# Altium footprint library FootprintLib.PcbLib: 194 footprints (part 10 of 13)
Each footprint in its own frame and in the unit in brackets; x right, y up, seen from the top. Pads: shape width x height; smd on the part's side, far side on the other; paste and mask are expansions set on the pad; w line width, h text height; cw(c..) or ccw(c..) is an arc to the next point about the centre after c.
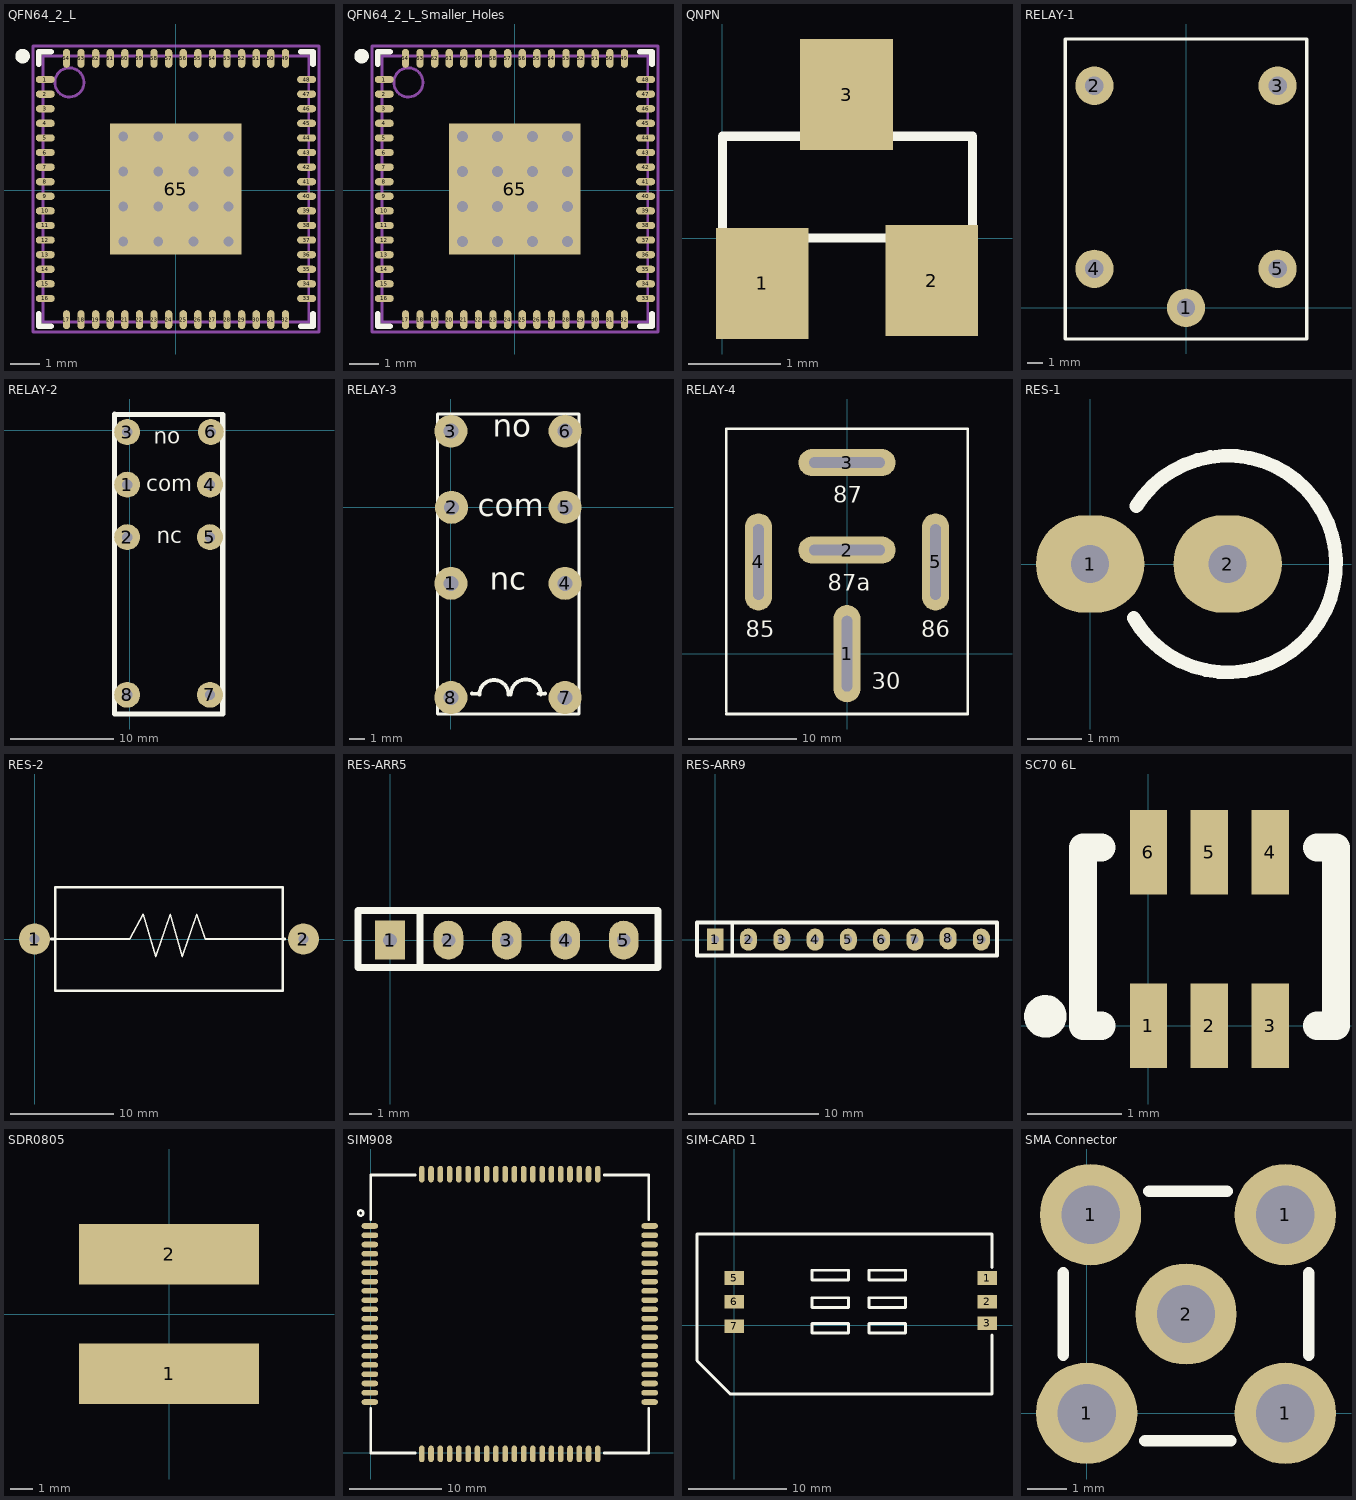
[diagram p9: the footprints below, top view; thin cyan lines are the x and y axes]

## QFN64_2_L [mm]
pads (65):
  oval 0.65x0.25 smd: 1(-4.475,3.801) 2(-4.475,3.301) 3(-4.475,2.801) 4(-4.475,2.301) 5(-4.475,1.801) 6(-4.475,1.301) 7(-4.475,0.801) 8(-4.475,0.301) 9(-4.475,-0.199) 10(-4.475,-0.699) 11(-4.475,-1.199) 12(-4.475,-1.699) 13(-4.475,-2.199) 14(-4.475,-2.699) 15(-4.475,-3.199) 16(-4.475,-3.699) 33(4.475,-3.699) 34(4.475,-3.199) 35(4.475,-2.699) 36(4.475,-2.199) 37(4.475,-1.699) 38(4.475,-1.199) 39(4.475,-0.699) 40(4.475,-0.199) 41(4.475,0.301) 42(4.475,0.801) 43(4.475,1.301) 44(4.475,1.801) 45(4.475,2.301) 46(4.475,2.801) 47(4.475,3.301) 48(4.475,3.801)
  oval 0.25x0.65 smd: 17(-3.75,-4.424) 18(-3.25,-4.424) 19(-2.75,-4.424) 20(-2.25,-4.424) 21(-1.75,-4.424) 22(-1.25,-4.424) 23(-0.75,-4.424) 24(-0.25,-4.424) 25(0.25,-4.424) 26(0.75,-4.424) 27(1.25,-4.424) 28(1.75,-4.424) 29(2.25,-4.424) 30(2.75,-4.424) 31(3.25,-4.424) 32(3.75,-4.424) 49(3.75,4.526) 50(3.25,4.526) 51(2.75,4.526) 52(2.25,4.526) 53(1.75,4.526) 54(1.25,4.526) 55(0.75,4.526) 56(0.25,4.526) 57(-0.25,4.526) 58(-0.75,4.526) 59(-1.25,4.526) 60(-1.75,4.526) 61(-2.25,4.526) 62(-2.75,4.526) 63(-3.25,4.526) 64(-3.75,4.526)
  rect 4.5x4.5 smd: 65(0,0.051)
via 1.8,-1.749 diameter 0.66 hole 0.33
via 0.6,-1.749 diameter 0.66 hole 0.33
via -0.6,-1.749 diameter 0.66 hole 0.33
via -1.8,-1.749 diameter 0.66 hole 0.33
via 1.8,-0.549 diameter 0.66 hole 0.33
via 0.6,-0.549 diameter 0.66 hole 0.33
via -0.6,-0.549 diameter 0.66 hole 0.33
via -1.8,-0.549 diameter 0.66 hole 0.33
via 1.8,0.651 diameter 0.66 hole 0.33
via 0.6,0.651 diameter 0.66 hole 0.33
via -0.6,0.651 diameter 0.66 hole 0.33
via -1.8,0.651 diameter 0.66 hole 0.33
via 1.8,1.851 diameter 0.66 hole 0.33
via 0.6,1.851 diameter 0.66 hole 0.33
via -0.6,1.851 diameter 0.66 hole 0.33
via -1.8,1.851 diameter 0.66 hole 0.33
Top Overlay:
  circle w0.25: c-5.25,4.601 r0.125
  lines w0.2: -4.7,-4.224 -4.7,-4.649 -4.275,-4.649 ; -4.7,4.326 -4.7,4.751 -4.275,4.751 ; 4.275,-4.649 4.7,-4.649 4.7,-4.224 ; 4.275,4.751 4.7,4.751 4.7,4.326
Mechanical 13:
  circle w0.1: c-3.65,3.701 r0.5
  lines w0.1: -4.55,-4.499 4.55,-4.499 4.55,4.601 -4.55,4.601 -4.55,-4.499
Mechanical 15:
  lines w0.1: -0.5,0.051 0.5,0.051 ; 0,-0.449 0,0.551 ; -4.9,-4.849 4.9,-4.849 4.9,4.951 -4.9,4.951 -4.9,-4.849
3D body: height 1, standoff 0, extent -4.549,-4.499 4.55,4.6

## QFN64_2_L_Smaller_Holes [mm]
pads (65):
  oval 0.65x0.25 smd: 1(-4.475,3.801) 2(-4.475,3.301) 3(-4.475,2.801) 4(-4.475,2.301) 5(-4.475,1.801) 6(-4.475,1.301) 7(-4.475,0.801) 8(-4.475,0.301) 9(-4.475,-0.199) 10(-4.475,-0.699) 11(-4.475,-1.199) 12(-4.475,-1.699) 13(-4.475,-2.199) 14(-4.475,-2.699) 15(-4.475,-3.199) 16(-4.475,-3.699) 33(4.475,-3.699) 34(4.475,-3.199) 35(4.475,-2.699) 36(4.475,-2.199) 37(4.475,-1.699) 38(4.475,-1.199) 39(4.475,-0.699) 40(4.475,-0.199) 41(4.475,0.301) 42(4.475,0.801) 43(4.475,1.301) 44(4.475,1.801) 45(4.475,2.301) 46(4.475,2.801) 47(4.475,3.301) 48(4.475,3.801)
  oval 0.25x0.65 smd: 17(-3.75,-4.424) 18(-3.25,-4.424) 19(-2.75,-4.424) 20(-2.25,-4.424) 21(-1.75,-4.424) 22(-1.25,-4.424) 23(-0.75,-4.424) 24(-0.25,-4.424) 25(0.25,-4.424) 26(0.75,-4.424) 27(1.25,-4.424) 28(1.75,-4.424) 29(2.25,-4.424) 30(2.75,-4.424) 31(3.25,-4.424) 32(3.75,-4.424) 49(3.75,4.526) 50(3.25,4.526) 51(2.75,4.526) 52(2.25,4.526) 53(1.75,4.526) 54(1.25,4.526) 55(0.75,4.526) 56(0.25,4.526) 57(-0.25,4.526) 58(-0.75,4.526) 59(-1.25,4.526) 60(-1.75,4.526) 61(-2.25,4.526) 62(-2.75,4.526) 63(-3.25,4.526) 64(-3.75,4.526)
  rect 4.5x4.5 smd: 65(0,0.051)
via -1.8,1.851 diameter 0.69 hole 0.381
via -0.6,1.851 diameter 0.69 hole 0.381
via 0.6,1.851 diameter 0.69 hole 0.381
via 1.8,1.851 diameter 0.69 hole 0.381
via -1.8,0.651 diameter 0.69 hole 0.381
via -0.6,0.651 diameter 0.69 hole 0.381
via 0.6,0.651 diameter 0.69 hole 0.381
via 1.8,0.651 diameter 0.69 hole 0.381
via -1.8,-0.549 diameter 0.69 hole 0.381
via -0.6,-0.549 diameter 0.69 hole 0.381
via 0.6,-0.549 diameter 0.69 hole 0.381
via 1.8,-0.549 diameter 0.69 hole 0.381
via -1.8,-1.749 diameter 0.69 hole 0.381
via -0.6,-1.749 diameter 0.69 hole 0.381
via 0.6,-1.749 diameter 0.69 hole 0.381
via 1.8,-1.749 diameter 0.69 hole 0.381
Top Overlay:
  circle w0.25: c-5.25,4.601 r0.125
  lines w0.2: -4.7,-4.224 -4.7,-4.649 -4.275,-4.649 ; -4.7,4.326 -4.7,4.751 -4.275,4.751 ; 4.275,-4.649 4.7,-4.649 4.7,-4.224 ; 4.275,4.751 4.7,4.751 4.7,4.326
Mechanical 13:
  circle w0.1: c-3.65,3.701 r0.5
  lines w0.1: -4.55,-4.499 -4.55,4.601 4.55,4.601 4.55,-4.499 -4.55,-4.499
Mechanical 15:
  lines w0.1: -0.5,0.051 0.5,0.051 ; 0,-0.449 0,0.551 ; -4.9,-4.849 -4.9,4.951 4.9,4.951 4.9,-4.849 -4.9,-4.849
3D body: height 1, standoff 0, extent -4.549,-4.499 4.55,4.6

## QNPN [mm]
pads (3):
  rect 1x1.2 smd: 1(0.43,-0.49) 2(2.26,-0.46) 3(1.34,1.55)
Top Overlay:
  lines w0.1: 0,0 2.7,0 2.7,1.1 0,1.1 0,0

## RELAY-1 [mm]
pads (5):
  round 2.5 hole 1.2: 1(0,0) 2(-5.969,14.478) 3(5.969,14.478) 4(-5.969,2.54) 5(5.969,2.54)
Top Overlay:
  lines w0.2: -7.874,-2.032 7.874,-2.032 7.874,17.526 -7.874,17.526 -7.874,-2.032

## RELAY-2 [mm] "Relay_5"
pads (8):
  round 2.5 hole 1: 1(-0.25,-5.25) 2(-0.25,-10.33) 3(-0.25,-0.17) 4(7.751,-5.25) 5(7.751,-10.33) 6(7.836,-0.165) 7(7.751,-25.57) 8(-0.25,-25.57)
Top Overlay:
  lines w0.5: -1.474,1.53 8.994,1.53 8.994,-27.426 -1.474,-27.426 -1.474,1.574
  text "com" at 1.6,-5.9 h1.5
  text "nc" at 2.6,-10.9 h1.5
  text "no" at 2.3,-1.3 h1.5

## RELAY-3 [mm]
pads (8):
  round 2.2 hole 1: 1(0,-5.08) 2(0.042,-0.005) 3(0,5.08) 4(7.62,-5.08) 5(7.62,0) 6(7.62,5.08) 7(7.62,-12.7) 8(0,-12.7)
Top Overlay:
  lines w0.2: -0.9,6.205 -0.9,-13.8 8.558,-13.8 ; -0.9,6.228 8.56,6.228 8.56,-13.8
  lines w0.254: 1.41,-12.434 1.846,-12.446 ; 1.9,-12.5 cw(c2.872,-12.5) 3.844,-12.5 ; 4,-12.5 cw(c5,-12.5) 6,-12.5 ; 5.842,-12.446 6.295,-12.433 ; 6.773,-0.005 8.043,-0.005
  text "no" at 2.8,4.7 h1.5
  text "nc" at 2.6,-5.5 h1.5
  text "com" at 1.8,-0.6 h1.5

## RELAY-4 [mm]
height 20
pads (5):
  oval 2.5x9 hole 1 slot 7 at 90 deg: 1(0,0) 4(-8.2,8.5) 5(8.2,8.5)
  oval 9x2.5 hole 1 slot 7 at 0 deg: 2(0,9.6) 3(0,17.7)
Top Overlay:
  lines w0.254: -11.176,-5.588 11.176,-5.588 11.176,20.828 ; -11.176,-5.372 -11.176,20.828 11.024,20.828
  text "87" at -1.27,13.97 h1.52
  text "87a" at -1.778,5.842 h1.52
  text "85" at -9.398,1.524 h1.52
  text "86" at 6.858,1.524 h1.52
  text "30" at 2.286,-3.302 h1.52

## RES-1 [mm]
pads (2):
  oval 2x1.8 hole 0.7: 1(0,0) 2(2.54,0)
Top Overlay:
  lines w0.254: 0.806,-0.997 ccw(c2.54,0) 0.849,1.069

## RES-2 [mm]
pads (2):
  round 3 hole 1: 1(0,0) 2(26,0)
Top Overlay:
  lines w0.15: 2,0 9.2,0 10.5,2.4 11.7,-1.7 13.1,2.4 14.3,-1.7 15.7,2.4 ; 24,0 16.5,0 15.7,2.4 ; 15.7,2.4 15.7,2.4
  lines w0.25: 1.6,0 2,0 ; 24,0 24.2,0 ; 2,-5 24,-5 24,5 2,5 2,-5

## RES-ARR5 [mm]
height 2
pads (5):
  rect 1.3x1.7 hole 0.6: 1(0,0)
  oval 1.3x1.7 hole 0.6: 2(2.55,0) 3(5.1,0) 4(7.65,0) 5(10.2,0)
Top Overlay:
  lines w0.3: 1.3,-1.2 1.3,1.3 ; -1.4,-1.2 -1.4,1.3 11.7,1.3 11.7,-1.2 -1.4,-1.2

## RES-ARR9 [mm]
pads (9):
  rect 1.3x1.7 hole 0.6: 1(0,0)
  oval 1.3x1.7 hole 0.6: 2(2.55,0) 3(5.1,0) 4(7.65,0) 5(10.2,0) 6(12.75,0) 7(15.3,0) 8(17.85,0.1) 9(20.4,0)
Top Overlay:
  lines w0.3: 1.3,-1.2 1.3,1.3 ; -1.4,-1.2 -1.4,1.3 21.6,1.3 21.6,-1.2 -1.4,-1.2

## SC70 6L [mm]
height 1.1
pads (6):
  rect 0.4x0.9 smd: 1(0,0) 2(0.65,0) 3(1.3,0) 4(1.3,1.85) 5(0.65,1.85) 6(0,1.85)
Top Overlay:
  circle w0.254: c-1.1,0.1 r0.1
  lines w0.3: -0.5,0 -0.7,0 -0.7,1.9 -0.5,1.9 ; 1.8,0 2,0 2,1.9 1.8,1.9

## SDR0805 [mm]
pads (2):
  rect 8x2.7 smd: 1(0,-2.65) 2(0,2.65)

## SIM908 [mm]
height 3.2
pads (80):
  oval 1.8x0.6 smd: 1(-0.1,24.5) 2(-0.1,23.5) 3(-0.1,22.5) 4(-0.1,21.5) 5(-0.1,20.5) 6(-0.1,19.5) 7(-0.1,18.5) 8(-0.1,17.5) 9(-0.1,16.5) 10(-0.1,15.5) 11(-0.1,14.5) 12(-0.1,13.5) 13(-0.1,12.5) 14(-0.1,11.5) 15(-0.1,10.5) 16(-0.1,9.5) 17(-0.1,8.5) 18(-0.1,7.5) 19(-0.1,6.5) 20(-0.1,5.5) 41(30.1,5.5) 42(30.1,6.5) 43(30.1,7.5) 44(30.1,8.5) 45(30.1,9.5) 46(30.1,10.5) 47(30.1,11.5) 48(30.1,12.5) 49(30.1,13.5) 50(30.1,14.5) 51(30.1,15.5) 52(30.1,16.5) 53(30.1,17.5) 54(30.1,18.5) 55(30.1,19.5) 56(30.1,20.5) 57(30.1,21.5) 58(30.1,22.5) 59(30.1,23.5) 60(30.1,24.5)
  oval 0.6x1.8 smd: 21(5.5,-0.1) 22(6.5,-0.1) 23(7.5,-0.1) 24(8.5,-0.1) 25(9.5,-0.1) 26(10.5,-0.1) 27(11.5,-0.1) 28(12.5,-0.1) 29(13.5,-0.1) 30(14.5,-0.1) 31(15.5,-0.1) 32(16.5,-0.1) 33(17.5,-0.1) 34(18.5,-0.1) 35(19.5,-0.1) 36(20.5,-0.1) 37(21.5,-0.1) 38(22.5,-0.1) 39(23.5,-0.1) 40(24.5,-0.1) 61(24.5,30.1) 62(23.5,30.1) 63(22.5,30.1) 64(21.5,30.1) 65(20.5,30.1) 66(19.5,30.1) 67(18.5,30.1) 68(17.5,30.1) 69(16.5,30.1) 70(15.5,30.1) 71(14.5,30.1) 72(13.5,30.1) 73(12.5,30.1) 74(11.5,30.1) 75(10.5,30.1) 76(9.5,30.1) 77(8.5,30.1) 78(7.5,30.1) 79(6.5,30.1) 80(5.5,30.1)
Top Overlay:
  circle w0.254: c-1.1,25.9 r0.283
  lines w0.3: 0,4.8 0,0 4.8,0 ; 0,25.2 0,30 4.8,30 ; 25.2,0 30,0 30,4.8 ; 25.2,30 30,30 30,25.2

## SIM-CARD 1 [mm]
height 2.4
pads (6):
  rect 2x1.4 smd: 1(25.7,4.8) 2(25.7,2.4) 3(25.7,0.2) 5(0,4.8) 6(0,2.4) 7(0,-0.1)
Top Overlay:
  lines w0.3: 26.2,-1 26.2,-7 -0.4,-7 -3.8,-3.6 -3.8,9.3 26.2,9.3 26.2,5.9 ; 7.9,-0.8 7.9,0.2 11.6,0.2 11.6,-0.8 7.9,-0.8 ; 7.9,1.8 7.9,2.8 11.6,2.8 11.6,1.8 7.9,1.8 ; 7.9,4.6 11.6,4.6 11.6,5.6 7.9,5.6 7.9,4.6 ; 13.7,-0.8 17.4,-0.8 17.4,0.2 13.7,0.2 13.7,-0.8 ; 13.7,1.8 17.4,1.8 17.4,2.8 13.7,2.8 13.7,1.8 ; 13.7,4.6 13.7,5.6 17.4,5.6 17.4,4.6 13.7,4.6

## SMA Connector [mm]
height 13.5
pads (5):
  round 2.6 hole 1.5: 1(0,0) 1(0.1,5.1) 1(5.1,0) 1(5.1,5.1) 2(2.55,2.55)
Top Overlay:
  lines w0.3: -0.6,1.5 -0.6,3.6 ; 1.5,-0.7 3.7,-0.7 ; 1.6,5.7 3.6,5.7 ; 5.7,1.5 5.7,3.6